# EAGLE library part 8X10_ARRAY (library res)
RES ARRAY 8x10 RES
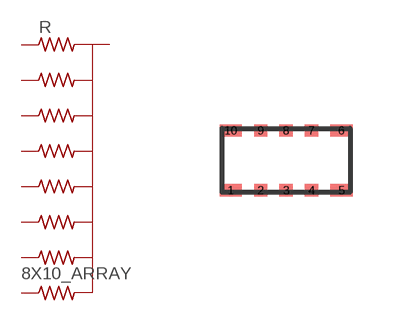
[diagram p2: symbol with the pads of CAY17_1206_8; footprint CAY17_1206_8]

Designator prefix R

## 8X10_ARRAY (DIGIKEY: CAY17-103JALFCT-ND; MPN: CAY17-103JALF; PWR: 0.0625; SIZE: 1206; TOL: 5%; VALUE: 10K)  [CAY17_1206_8]
1  1  pas
2  2  pas
3  3  pas
4  4  pas
5  COM  pas
6  5  pas
7  6  pas
8  7  pas
9  8  pas
10  COM  pas

## Footprint CAY17_1206_8 (pad centres in mm)
smd 0.559 x 0.305: 1 -1.384,-0.749; 5 1.384,-0.749; 6 1.384,0.749; 10 -1.384,0.749
smd 0.33 x 0.305: 2 -0.635,-0.749; 3 0,-0.749; 4 0.635,-0.749; 7 0.635,0.749; 8 0,0.749; 9 -0.635,0.749